# Altium footprint library SOIC.PcbLib: 4 footprints
Each footprint in its own frame and in the unit in brackets; x right, y up, seen from the top. Pads: shape width x height; smd on the part's side, far side on the other; paste and mask are expansions set on the pad; w line width, h text height; cw(c..) or ccw(c..) is an arc to the next point about the centre after c.
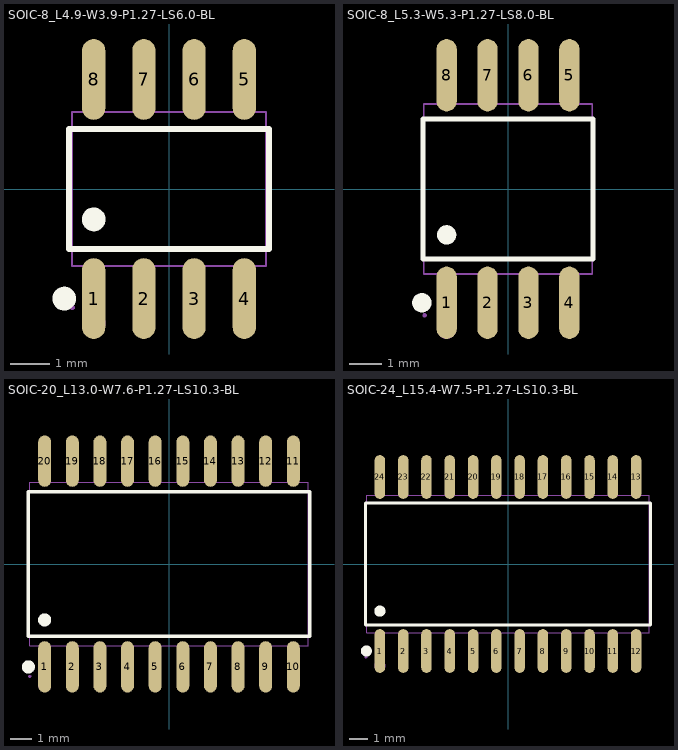
[diagram p0: the footprints below, top view; thin cyan lines are the x and y axes]

## SOIC-8_L4.9-W3.9-P1.27-LS6.0-BL [mm]
pads (8):
  oval 0.588x2.045 smd: 1(-1.905,-2.772) 2(-0.635,-2.772) 3(0.635,-2.772) 4(1.905,-2.772) 5(1.905,2.772) 6(0.635,2.772) 7(-0.635,2.772) 8(-1.905,2.772)
Top Overlay:
  circle w0.3: c-2.652,-2.772 r0.15
  circle w0.3: c-1.905,-0.769 r0.15
  lines w0.152: -2.526,-1.521 2.526,-1.521 2.526,1.521 -2.526,1.521 -2.526,-1.521
Mechanical 6:
  circle w0.3: c-1.905,-3.4 r0.15
Mechanical 15:
  region: 1.695,2.175 1.695,1.94 2.115,1.94 2.115,2.175
  region: 1.695,3 1.695,2.165 2.115,2.165 2.115,3
  region: 0.425,2.175 0.425,1.94 0.845,1.94 0.845,2.175
  region: 0.425,3 0.425,2.165 0.845,2.165 0.845,3
  region: -0.845,2.175 -0.845,1.94 -0.425,1.94 -0.425,2.175
  region: -0.845,3 -0.845,2.165 -0.425,2.165 -0.425,3
  region: -2.115,2.175 -2.115,1.94 -1.695,1.94 -1.695,2.175
  region: -2.115,3 -2.115,2.165 -1.695,2.165 -1.695,3
  region: 1.695,-2.175 1.695,-1.94 2.115,-1.94 2.115,-2.175
  region: 1.695,-3 1.695,-2.165 2.115,-2.165 2.115,-3
  region: 0.425,-2.175 0.425,-1.94 0.845,-1.94 0.845,-2.175
  region: 0.425,-3 0.425,-2.165 0.845,-2.165 0.845,-3
  region: -0.845,-2.175 -0.845,-1.94 -0.425,-1.94 -0.425,-2.175
  region: -0.845,-3 -0.845,-2.165 -0.425,-2.165 -0.425,-3
  region: -2.115,-2.175 -2.115,-1.94 -1.695,-1.94 -1.695,-2.175
  region: -2.115,-3 -2.115,-2.165 -1.695,-2.165 -1.695,-3
  region: -2.39,-3 -2.39,-2.975 -2.425,-2.94 -2.475,-2.94 -2.51,-2.975 -2.51,-3 -2.51,-3.025 -2.475,-3.06 -2.425,-3.06 -2.39,-3.025
  lines w0.051: -2.45,-1.95 2.45,-1.95 2.45,1.95 -2.45,1.95 -2.45,-1.95
3D body "U2.step": height 1.72, standoff 0, extent -2.407,-3 2.408,3

## SOIC-8_L5.3-W5.3-P1.27-LS8.0-BL [mm]
pads (8):
  oval 0.63x2.25 smd: 1(-1.905,-3.53) 2(-0.635,-3.53) 3(0.635,-3.53) 4(1.905,-3.53) 5(1.905,3.53) 6(0.635,3.53) 7(-0.635,3.53) 8(-1.905,3.53)
Top Overlay:
  circle w0.3: c-2.672,-3.53 r0.15
  circle w0.3: c-1.905,-1.424 r0.15
  lines w0.152: -2.639,-2.176 2.639,-2.176 2.639,2.176 -2.639,2.176 -2.639,-2.176
Mechanical 6:
  circle w0.3: c-1.905,-4.35 r0.15
Mechanical 15:
  region: 1.68,3.31 1.68,2.595 2.13,2.595 2.13,3.31
  region: 1.68,3.95 1.68,3.3 2.13,3.3 2.13,3.95
  region: 0.41,3.31 0.41,2.595 0.86,2.595 0.86,3.31
  region: 0.41,3.95 0.41,3.3 0.86,3.3 0.86,3.95
  region: -0.86,3.31 -0.86,2.595 -0.41,2.595 -0.41,3.31
  region: -0.86,3.95 -0.86,3.3 -0.41,3.3 -0.41,3.95
  region: -2.13,3.31 -2.13,2.595 -1.68,2.595 -1.68,3.31
  region: -2.13,3.95 -2.13,3.3 -1.68,3.3 -1.68,3.95
  region: 1.68,-3.31 1.68,-2.595 2.13,-2.595 2.13,-3.31
  region: 1.68,-3.95 1.68,-3.3 2.13,-3.3 2.13,-3.95
  region: 0.41,-3.31 0.41,-2.595 0.86,-2.595 0.86,-3.31
  region: 0.41,-3.95 0.41,-3.3 0.86,-3.3 0.86,-3.95
  region: -0.86,-3.31 -0.86,-2.595 -0.41,-2.595 -0.41,-3.31
  region: -0.86,-3.95 -0.86,-3.3 -0.41,-3.3 -0.41,-3.95
  region: -2.13,-3.31 -2.13,-2.595 -1.68,-2.595 -1.68,-3.31
  region: -2.13,-3.95 -2.13,-3.3 -1.68,-3.3 -1.68,-3.95
  region: -2.525,-3.92 -2.525,-3.895 -2.56,-3.861 -2.61,-3.861 -2.645,-3.895 -2.645,-3.92 -2.645,-3.945 -2.61,-3.979 -2.561,-3.979 -2.525,-3.945
  lines w0.051: -2.615,-2.64 2.615,-2.64 2.615,2.64 -2.615,2.64 -2.615,-2.64
3D body "U1.step": height 2.07, standoff 0, extent -2.65,-3.953 2.65,3.953

## SOIC-20_L13.0-W7.6-P1.27-LS10.3-BL [mm]
pads (20):
  oval 0.595x2.36 smd: 1(-5.715,-4.73) 2(-4.445,-4.73) 3(-3.175,-4.73) 4(-1.905,-4.73) 5(-0.635,-4.73) 6(0.635,-4.73) 7(1.905,-4.73) 8(3.175,-4.73) 9(4.445,-4.73) 10(5.715,-4.73) 11(5.715,4.73) 12(4.445,4.73) 13(3.175,4.73) 14(1.905,4.73) 15(0.635,4.73) 16(-0.635,4.73) 17(-1.905,4.73) 18(-3.175,4.73) 19(-4.445,4.73) 20(-5.715,4.73)
Top Overlay:
  circle w0.3: c-5.715,-2.569 r0.15
  circle w0.3: c-6.465,-4.73 r0.15
  lines w0.152: -6.476,-3.321 -6.476,3.321 6.476,3.321 6.476,-3.321 -6.476,-3.321
Mechanical 6:
  circle w0.3: c-5.715,-5.563 r0.15
Mechanical 15:
  drawing of 45 lines, arcs and shapes, not listed
3D body "U3.step": height 2.85, standoff 0, extent -6.4,-5.203 6.4,5.203

## SOIC-24_L15.4-W7.5-P1.27-LS10.3-BL [mil]
pads (24):
  oval 22.6x94.02 smd: 1(-275,-186.77) 2(-225,-186.77) 3(-175,-186.77) 4(-125,-186.77) 5(-75,-186.77) 6(-25,-186.77) 7(25,-186.77) 8(75,-186.77) 9(125,-186.77) 10(175,-186.77) 11(225,-186.77) 12(275,-186.77) 13(275,186.77) 14(225,186.77) 15(175,186.77) 16(125,186.77) 17(75,186.77) 18(25,186.77) 19(-25,186.77) 20(-75,186.77) 21(-125,186.77) 22(-175,186.77) 23(-225,186.77) 24(-275,186.77)
Top Overlay:
  circle w11.81: c-275,-101.14 r5.91
  circle w11.81: c-304.11,-186.77 r5.91
  lines w6: -306.15,-130.76 -306.15,130.76 306.15,130.76 306.15,-130.76 -306.15,-130.76
Mechanical 6:
  circle w11.81: c-275,-218.5 r5.91
Mechanical 15:
  drawing of 53 lines, arcs and shapes, not listed
3D body "U1.step": height 98.46, standoff 0, extent -303.15,-203.25 303.15,203.25